# Altium integrated library Maxim Filter Continuous-Time Active.IntLib: 20 symbols
Pins are listed as number, name and electrical type; pins without a type are passive.

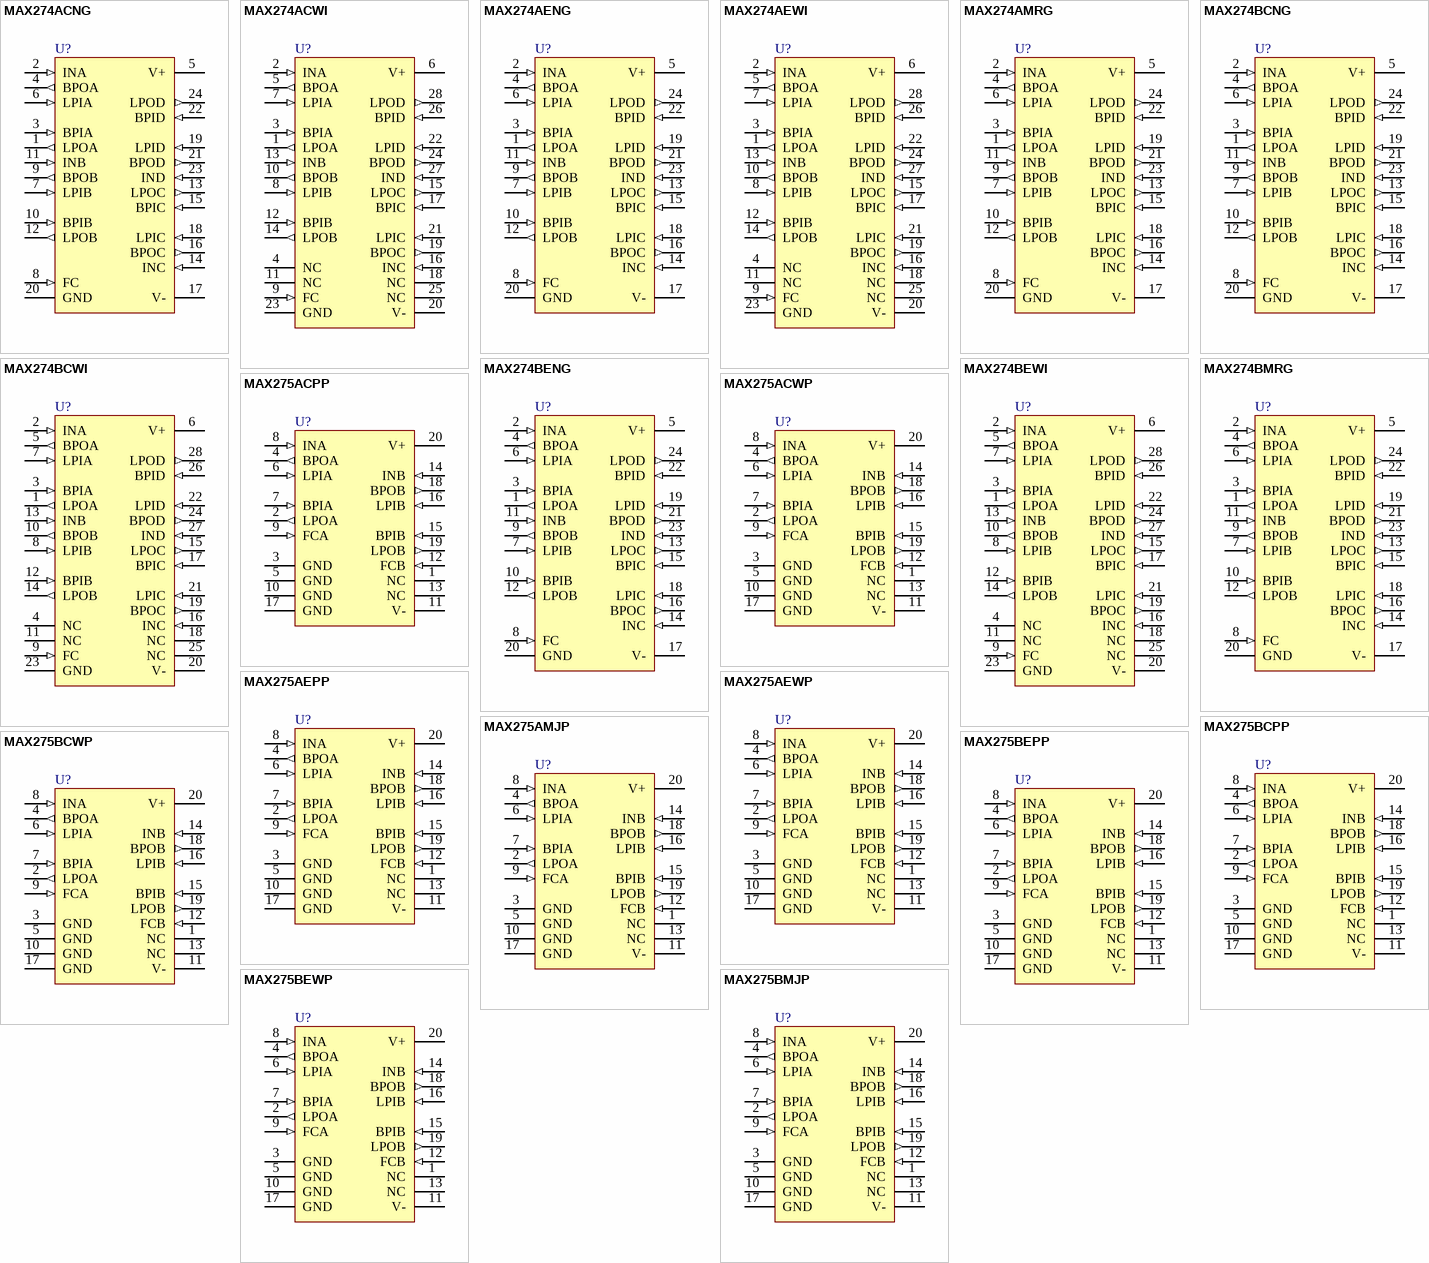
[diagram p0: symbols MAX274ACNG to MAX275BMJP]

## MAX274ACNG
designator U?
4th and 8th-Order Continuous-Time Active Filter; Published: 16-Jan-2001; LatestRevisionDate: 29-May-2009; LatestRevisionNote: Component Body Added.; DatasheetVersion: Oct-1996; PackageVersion: Aug-2000; PackageReference: NG24; Publisher: Altium Limited; PackageDescription: DIP, 24-Pin, Row Spacing 7.62 mm, Pitch 2.54 mm; Code_JEDEC: MS-001-AF; ComponentLink1Description: Manufacturer Link; ComponentLink1URL: http://www.maxim-ic.com/; ComponentLink2Description: Datasheet; ComponentLink2URL: http://pdfserv.maxim-ic.com/en/ds/MAX274-MAX275.pdf
footprint NG24 (DIP, 24-Leads, Row Spacing 7.62mm, Pitch 2.54mm, Body 30.55x7.24mm)
3D model NG24 (DIP, 24-Pin, Row Spacing 7.62 mm, Pitch 2.54 mm)
pins: 1 LPOA (out), 2 INA (in), 3 BPIA (in), 4 BPOA (out), 5 V+ (power), 6 LPIA (in), 7 LPIB (in), 8 FC (in), 9 BPOB (out), 10 BPIB (in), 11 INB (in), 12 LPOB (out), 13 LPOC (out), 14 INC (in), 15 BPIC (in), 16 BPOC (out), 17 V- (power), 18 LPIC (in), 19 LPID (in), 20 GND (power), 21 BPOD (out), 22 BPID (in), 23 IND (in), 24 LPOD (out)

## MAX274ACWI
designator U?
4th and 8th-Order Continuous-Time Active Filter; Published: 16-Jan-2001; LatestRevisionDate: 13-Apr-2006; LatestRevisionNote: IPC-7351 Footprint Added.; DatasheetVersion: Oct-1996; PackageReference: WSO28; Publisher: Altium Limited; PackageDescription: 28-Pin Small Outline Integrated Circuit 1.27 mm Pitch; ComponentLink1Description: Manufacturer Link; ComponentLink1URL: http://www.maxim-ic.com/; ComponentLink2Description: Datasheet; ComponentLink2URL: http://pdfserv.maxim-ic.com/en/ds/MAX274-MAX275.pdf
footprint WSO28_N (SOIC, 28-Leads, Body 17.9x7.5mm, Pitch 1.27mm, IPC Medium Density)
footprint WSO28_L (SOIC, 28-Leads, Body 17.9x7.5mm, Pitch 1.27mm, IPC High Density)
footprint WSO28_M (SOIC, 28-Leads, Body 17.9x7.5mm, Pitch 1.27mm, IPC Low Density)
3D model WSO28 (28-Pin Small Outline Integrated Circuit 1.27 mm Pitch)
pins: 1 LPOA (out), 2 INA (in), 3 BPIA (in), 4 NC, 5 BPOA (out), 6 V+ (power), 7 LPIA (in), 8 LPIB (in), 9 FC (in), 10 BPOB (out), 11 NC, 12 BPIB (in), 13 INB (in), 14 LPOB (out), 15 LPOC (out), 16 INC (in), 17 BPIC (in), 18 NC, 19 BPOC (out), 20 V- (power), 21 LPIC (in), 22 LPID (in), 23 GND (power), 24 BPOD (out), 25 NC, 26 BPID (in), 27 IND (in), 28 LPOD (out)

## MAX274AENG
designator U?
4th and 8th-Order Continuous-Time Active Filter; Published: 16-Jan-2001; LatestRevisionDate: 29-May-2009; LatestRevisionNote: Component Body Added.; DatasheetVersion: Oct-1996; PackageVersion: Aug-2000; PackageReference: NG24; Publisher: Altium Limited; PackageDescription: DIP, 24-Pin, Row Spacing 7.62 mm, Pitch 2.54 mm; Code_JEDEC: MS-001-AF; ComponentLink1Description: Manufacturer Link; ComponentLink1URL: http://www.maxim-ic.com/; ComponentLink2Description: Datasheet; ComponentLink2URL: http://pdfserv.maxim-ic.com/en/ds/MAX274-MAX275.pdf
footprint NG24 (DIP, 24-Leads, Row Spacing 7.62mm, Pitch 2.54mm, Body 30.55x7.24mm)
3D model NG24 (DIP, 24-Pin, Row Spacing 7.62 mm, Pitch 2.54 mm)
pins: 1 LPOA (out), 2 INA (in), 3 BPIA (in), 4 BPOA (out), 5 V+ (power), 6 LPIA (in), 7 LPIB (in), 8 FC (in), 9 BPOB (out), 10 BPIB (in), 11 INB (in), 12 LPOB (out), 13 LPOC (out), 14 INC (in), 15 BPIC (in), 16 BPOC (out), 17 V- (power), 18 LPIC (in), 19 LPID (in), 20 GND (power), 21 BPOD (out), 22 BPID (in), 23 IND (in), 24 LPOD (out)

## MAX274AEWI
designator U?
4th and 8th-Order Continuous-Time Active Filter; Published: 16-Jan-2001; LatestRevisionDate: 13-Apr-2006; LatestRevisionNote: IPC-7351 Footprint Added.; DatasheetVersion: Oct-1996; PackageReference: WSO28; Publisher: Altium Limited; PackageDescription: 28-Pin Small Outline Integrated Circuit 1.27 mm Pitch; ComponentLink1Description: Manufacturer Link; ComponentLink1URL: http://www.maxim-ic.com/; ComponentLink2Description: Datasheet; ComponentLink2URL: http://pdfserv.maxim-ic.com/en/ds/MAX274-MAX275.pdf
footprint WSO28_N (SOIC, 28-Leads, Body 17.9x7.5mm, Pitch 1.27mm, IPC Medium Density)
footprint WSO28_L (SOIC, 28-Leads, Body 17.9x7.5mm, Pitch 1.27mm, IPC High Density)
footprint WSO28_M (SOIC, 28-Leads, Body 17.9x7.5mm, Pitch 1.27mm, IPC Low Density)
3D model WSO28 (28-Pin Small Outline Integrated Circuit 1.27 mm Pitch)
pins: 1 LPOA (out), 2 INA (in), 3 BPIA (in), 4 NC, 5 BPOA (out), 6 V+ (power), 7 LPIA (in), 8 LPIB (in), 9 FC (in), 10 BPOB (out), 11 NC, 12 BPIB (in), 13 INB (in), 14 LPOB (out), 15 LPOC (out), 16 INC (in), 17 BPIC (in), 18 NC, 19 BPOC (out), 20 V- (power), 21 LPIC (in), 22 LPID (in), 23 GND (power), 24 BPOD (out), 25 NC, 26 BPID (in), 27 IND (in), 28 LPOD (out)

## MAX274AMRG
designator U?
4th and 8th-Order Continuous-Time Active Filter; Published: 16-Jan-2001; LatestRevisionDate: 29-May-2009; LatestRevisionNote: Component Body Added.; DatasheetVersion: Oct-1996; PackageVersion: 1996; PackageReference: RG24; Publisher: Altium Limited; PackageDescription: DIP, 24-Pin, Row Spacing 7.62 mm, Pitch 2.54 mm; Code_JEDEC: MS-001-AF; ComponentLink1Description: Manufacturer Link; ComponentLink1URL: http://www.maxim-ic.com/; ComponentLink2Description: Datasheet; ComponentLink2URL: http://pdfserv.maxim-ic.com/en/ds/MAX274-MAX275.pdf
footprint RG24 (DIP, 24-Leads, Row Spacing 7.62mm, Pitch 2.54mm, Body 31.88x6.73mm)
3D model NG24 (DIP, 24-Pin, Row Spacing 7.62 mm, Pitch 2.54 mm)
pins: 1 LPOA (out), 2 INA (in), 3 BPIA (in), 4 BPOA (out), 5 V+ (power), 6 LPIA (in), 7 LPIB (in), 8 FC (in), 9 BPOB (out), 10 BPIB (in), 11 INB (in), 12 LPOB (out), 13 LPOC (out), 14 INC (in), 15 BPIC (in), 16 BPOC (out), 17 V- (power), 18 LPIC (in), 19 LPID (in), 20 GND (power), 21 BPOD (out), 22 BPID (in), 23 IND (in), 24 LPOD (out)

## MAX274BCNG
designator U?
4th and 8th-Order Continuous-Time Active Filter; Published: 16-Jan-2001; LatestRevisionDate: 29-May-2009; LatestRevisionNote: Component Body Added.; DatasheetVersion: Oct-1996; PackageVersion: Aug-2000; PackageReference: NG24; Publisher: Altium Limited; PackageDescription: DIP, 24-Pin, Row Spacing 7.62 mm, Pitch 2.54 mm; Code_JEDEC: MS-001-AF; ComponentLink1Description: Manufacturer Link; ComponentLink1URL: http://www.maxim-ic.com/; ComponentLink2Description: Datasheet; ComponentLink2URL: http://pdfserv.maxim-ic.com/en/ds/MAX274-MAX275.pdf
footprint NG24 (DIP, 24-Leads, Row Spacing 7.62mm, Pitch 2.54mm, Body 30.55x7.24mm)
3D model NG24 (DIP, 24-Pin, Row Spacing 7.62 mm, Pitch 2.54 mm)
pins: 1 LPOA (out), 2 INA (in), 3 BPIA (in), 4 BPOA (out), 5 V+ (power), 6 LPIA (in), 7 LPIB (in), 8 FC (in), 9 BPOB (out), 10 BPIB (in), 11 INB (in), 12 LPOB (out), 13 LPOC (out), 14 INC (in), 15 BPIC (in), 16 BPOC (out), 17 V- (power), 18 LPIC (in), 19 LPID (in), 20 GND (power), 21 BPOD (out), 22 BPID (in), 23 IND (in), 24 LPOD (out)

## MAX274BCWI
designator U?
4th and 8th-Order Continuous-Time Active Filter; Published: 16-Jan-2001; LatestRevisionDate: 13-Apr-2006; LatestRevisionNote: IPC-7351 Footprint Added.; DatasheetVersion: Oct-1996; PackageReference: WSO28; Publisher: Altium Limited; PackageDescription: 28-Pin Small Outline Integrated Circuit 1.27 mm Pitch; ComponentLink1Description: Manufacturer Link; ComponentLink1URL: http://www.maxim-ic.com/; ComponentLink2Description: Datasheet; ComponentLink2URL: http://pdfserv.maxim-ic.com/en/ds/MAX274-MAX275.pdf
footprint WSO28_N (SOIC, 28-Leads, Body 17.9x7.5mm, Pitch 1.27mm, IPC Medium Density)
footprint WSO28_L (SOIC, 28-Leads, Body 17.9x7.5mm, Pitch 1.27mm, IPC High Density)
footprint WSO28_M (SOIC, 28-Leads, Body 17.9x7.5mm, Pitch 1.27mm, IPC Low Density)
3D model WSO28 (28-Pin Small Outline Integrated Circuit 1.27 mm Pitch)
pins: 1 LPOA (out), 2 INA (in), 3 BPIA (in), 4 NC, 5 BPOA (out), 6 V+ (power), 7 LPIA (in), 8 LPIB (in), 9 FC (in), 10 BPOB (out), 11 NC, 12 BPIB (in), 13 INB (in), 14 LPOB (out), 15 LPOC (out), 16 INC (in), 17 BPIC (in), 18 NC, 19 BPOC (out), 20 V- (power), 21 LPIC (in), 22 LPID (in), 23 GND (power), 24 BPOD (out), 25 NC, 26 BPID (in), 27 IND (in), 28 LPOD (out)

## MAX274BENG
designator U?
4th and 8th-Order Continuous-Time Active Filter; Published: 16-Jan-2001; LatestRevisionDate: 29-May-2009; LatestRevisionNote: Component Body Added.; DatasheetVersion: Oct-1996; PackageVersion: Aug-2000; PackageReference: NG24; Publisher: Altium Limited; PackageDescription: DIP, 24-Pin, Row Spacing 7.62 mm, Pitch 2.54 mm; Code_JEDEC: MS-001-AF; ComponentLink1Description: Manufacturer Link; ComponentLink1URL: http://www.maxim-ic.com/; ComponentLink2Description: Datasheet; ComponentLink2URL: http://pdfserv.maxim-ic.com/en/ds/MAX274-MAX275.pdf
footprint NG24 (DIP, 24-Leads, Row Spacing 7.62mm, Pitch 2.54mm, Body 30.55x7.24mm)
3D model NG24 (DIP, 24-Pin, Row Spacing 7.62 mm, Pitch 2.54 mm)
pins: 1 LPOA (out), 2 INA (in), 3 BPIA (in), 4 BPOA (out), 5 V+ (power), 6 LPIA (in), 7 LPIB (in), 8 FC (in), 9 BPOB (out), 10 BPIB (in), 11 INB (in), 12 LPOB (out), 13 LPOC (out), 14 INC (in), 15 BPIC (in), 16 BPOC (out), 17 V- (power), 18 LPIC (in), 19 LPID (in), 20 GND (power), 21 BPOD (out), 22 BPID (in), 23 IND (in), 24 LPOD (out)

## MAX274BEWI
designator U?
4th and 8th-Order Continuous-Time Active Filter; Published: 16-Jan-2001; LatestRevisionDate: 13-Apr-2006; LatestRevisionNote: IPC-7351 Footprint Added.; DatasheetVersion: Oct-1996; PackageReference: WSO28; Publisher: Altium Limited; PackageDescription: 28-Pin Small Outline Integrated Circuit 1.27 mm Pitch; ComponentLink1Description: Manufacturer Link; ComponentLink1URL: http://www.maxim-ic.com/; ComponentLink2Description: Datasheet; ComponentLink2URL: http://pdfserv.maxim-ic.com/en/ds/MAX274-MAX275.pdf
footprint WSO28_N (SOIC, 28-Leads, Body 17.9x7.5mm, Pitch 1.27mm, IPC Medium Density)
footprint WSO28_L (SOIC, 28-Leads, Body 17.9x7.5mm, Pitch 1.27mm, IPC High Density)
footprint WSO28_M (SOIC, 28-Leads, Body 17.9x7.5mm, Pitch 1.27mm, IPC Low Density)
3D model WSO28 (28-Pin Small Outline Integrated Circuit 1.27 mm Pitch)
pins: 1 LPOA (out), 2 INA (in), 3 BPIA (in), 4 NC, 5 BPOA (out), 6 V+ (power), 7 LPIA (in), 8 LPIB (in), 9 FC (in), 10 BPOB (out), 11 NC, 12 BPIB (in), 13 INB (in), 14 LPOB (out), 15 LPOC (out), 16 INC (in), 17 BPIC (in), 18 NC, 19 BPOC (out), 20 V- (power), 21 LPIC (in), 22 LPID (in), 23 GND (power), 24 BPOD (out), 25 NC, 26 BPID (in), 27 IND (in), 28 LPOD (out)

## MAX274BMRG
designator U?
4th and 8th-Order Continuous-Time Active Filter; Published: 16-Jan-2001; LatestRevisionDate: 29-May-2009; LatestRevisionNote: Component Body Added.; DatasheetVersion: Oct-1996; PackageVersion: 1996; PackageReference: RG24; Publisher: Altium Limited; PackageDescription: DIP, 24-Pin, Row Spacing 7.62 mm, Pitch 2.54 mm; Code_JEDEC: MS-001-AF; ComponentLink1Description: Manufacturer Link; ComponentLink1URL: http://www.maxim-ic.com/; ComponentLink2Description: Datasheet; ComponentLink2URL: http://pdfserv.maxim-ic.com/en/ds/MAX274-MAX275.pdf
footprint RG24 (DIP, 24-Leads, Row Spacing 7.62mm, Pitch 2.54mm, Body 31.88x6.73mm)
3D model NG24 (DIP, 24-Pin, Row Spacing 7.62 mm, Pitch 2.54 mm)
pins: 1 LPOA (out), 2 INA (in), 3 BPIA (in), 4 BPOA (out), 5 V+ (power), 6 LPIA (in), 7 LPIB (in), 8 FC (in), 9 BPOB (out), 10 BPIB (in), 11 INB (in), 12 LPOB (out), 13 LPOC (out), 14 INC (in), 15 BPIC (in), 16 BPOC (out), 17 V- (power), 18 LPIC (in), 19 LPID (in), 20 GND (power), 21 BPOD (out), 22 BPID (in), 23 IND (in), 24 LPOD (out)

## MAX275ACPP
designator U?
4th and 8th-Order Continuous-Time Active Filter; Published: 16-Jan-2001; LatestRevisionDate: 29-May-2009; LatestRevisionNote: Component Body Added.; DatasheetVersion: Oct-1996; PackageVersion: RevB, 21-0043; PackageReference: PP20; Publisher: Altium Limited; PackageDescription: DIP, 20-Pin, Row Spacing 7.62 mm, Pitch 2.54 mm; Code_JEDEC: MS-001-AE; ComponentLink1Description: Manufacturer Link; ComponentLink1URL: http://www.maxim-ic.com/; ComponentLink2Description: Datasheet; ComponentLink2URL: http://pdfserv.maxim-ic.com/en/ds/MAX274-MAX275.pdf
footprint PP20 (DIP, 20-Leads, Row Spacing 7.62mm, Pitch 2.54mm, Body 26.16x7.24mm)
3D model PP20 (DIP, 20-Pin, Row Spacing 7.62 mm, Pitch 2.54 mm)
pins: 1 NC, 2 LPOA (out), 3 GND (power), 4 BPOA (out), 5 GND (power), 6 LPIA (in), 7 BPIA (in), 8 INA (in), 9 FCA (in), 10 GND (power), 11 V- (power), 12 FCB (in), 13 NC, 14 INB (in), 15 BPIB (in), 16 LPIB (in), 17 GND (power), 18 BPOB (out), 19 LPOB (out), 20 V+ (power)

## MAX275ACWP
designator U?
4th and 8th-Order Continuous-Time Active Filter; Published: 16-Jan-2001; LatestRevisionDate: 13-Apr-2006; LatestRevisionNote: IPC-7351 Footprint Added.; DatasheetVersion: Oct-1996; PackageReference: WSO20; Publisher: Altium Limited; PackageDescription: 20-Pin Small Outline Integrated Circuit 1.27 mm Pitch; Code_JEDEC: MS-013-AC; Code_IPC: SOIC127P1030-20; ComponentLink1Description: Manufacturer Link; ComponentLink1URL: http://www.maxim-ic.com/; ComponentLink2Description: Datasheet; ComponentLink2URL: http://pdfserv.maxim-ic.com/en/ds/MAX274-MAX275.pdf
footprint WSO20_N (SOIC, 20-Leads, Body 12.8x7.5mm, Pitch 1.27mm, IPC Medium Density)
footprint WSO20_L (SOIC, 20-Leads, Body 12.8x7.5mm, Pitch 1.27mm, IPC High Density)
footprint WSO20_M (SOIC, 20-Leads, Body 12.8x7.5mm, Pitch 1.27mm, IPC Low Density)
3D model WSO20 (20-Pin Small Outline Integrated Circuit 1.27 mm Pitch)
pins: 1 NC, 2 LPOA (out), 3 GND (power), 4 BPOA (out), 5 GND (power), 6 LPIA (in), 7 BPIA (in), 8 INA (in), 9 FCA (in), 10 GND (power), 11 V- (power), 12 FCB (in), 13 NC, 14 INB (in), 15 BPIB (in), 16 LPIB (in), 17 GND (power), 18 BPOB (out), 19 LPOB (out), 20 V+ (power)

## MAX275AEPP
designator U?
4th and 8th-Order Continuous-Time Active Filter; Published: 16-Jan-2001; LatestRevisionDate: 29-May-2009; LatestRevisionNote: Component Body Added.; DatasheetVersion: Oct-1996; PackageVersion: RevB, 21-0043; PackageReference: PP20; Publisher: Altium Limited; PackageDescription: DIP, 20-Pin, Row Spacing 7.62 mm, Pitch 2.54 mm; Code_JEDEC: MS-001-AE; ComponentLink1Description: Manufacturer Link; ComponentLink1URL: http://www.maxim-ic.com/; ComponentLink2Description: Datasheet; ComponentLink2URL: http://pdfserv.maxim-ic.com/en/ds/MAX274-MAX275.pdf
footprint PP20 (DIP, 20-Leads, Row Spacing 7.62mm, Pitch 2.54mm, Body 26.16x7.24mm)
3D model PP20 (DIP, 20-Pin, Row Spacing 7.62 mm, Pitch 2.54 mm)
pins: 1 NC, 2 LPOA (out), 3 GND (power), 4 BPOA (out), 5 GND (power), 6 LPIA (in), 7 BPIA (in), 8 INA (in), 9 FCA (in), 10 GND (power), 11 V- (power), 12 FCB (in), 13 NC, 14 INB (in), 15 BPIB (in), 16 LPIB (in), 17 GND (power), 18 BPOB (out), 19 LPOB (out), 20 V+ (power)

## MAX275AEWP
designator U?
4th and 8th-Order Continuous-Time Active Filter; Published: 16-Jan-2001; LatestRevisionDate: 13-Apr-2006; LatestRevisionNote: IPC-7351 Footprint Added.; DatasheetVersion: Oct-1996; PackageReference: WSO20; Publisher: Altium Limited; PackageDescription: 20-Pin Small Outline Integrated Circuit 1.27 mm Pitch; Code_JEDEC: MS-013-AC; Code_IPC: SOIC127P1030-20; ComponentLink1Description: Manufacturer Link; ComponentLink1URL: http://www.maxim-ic.com/; ComponentLink2Description: Datasheet; ComponentLink2URL: http://pdfserv.maxim-ic.com/en/ds/MAX274-MAX275.pdf
footprint WSO20_N (SOIC, 20-Leads, Body 12.8x7.5mm, Pitch 1.27mm, IPC Medium Density)
footprint WSO20_L (SOIC, 20-Leads, Body 12.8x7.5mm, Pitch 1.27mm, IPC High Density)
footprint WSO20_M (SOIC, 20-Leads, Body 12.8x7.5mm, Pitch 1.27mm, IPC Low Density)
3D model WSO20 (20-Pin Small Outline Integrated Circuit 1.27 mm Pitch)
pins: 1 NC, 2 LPOA (out), 3 GND (power), 4 BPOA (out), 5 GND (power), 6 LPIA (in), 7 BPIA (in), 8 INA (in), 9 FCA (in), 10 GND (power), 11 V- (power), 12 FCB (in), 13 NC, 14 INB (in), 15 BPIB (in), 16 LPIB (in), 17 GND (power), 18 BPOB (out), 19 LPOB (out), 20 V+ (power)

## MAX275AMJP
designator U?
4th and 8th-Order Continuous-Time Active Filter; Published: 16-Jan-2001; LatestRevisionDate: 29-May-2009; LatestRevisionNote: Component Body Added.; DatasheetVersion: Oct-1996; PackageVersion: 1996; PackageReference: JP20; Publisher: Altium Limited; PackageDescription: DIP, 20-Pin, Row Spacing 7.62 mm, Pitch 2.54 mm; Code_JEDEC: MS-001-AD; ComponentLink1Description: Manufacturer Link; ComponentLink1URL: http://www.maxim-ic.com/; ComponentLink2Description: Datasheet; ComponentLink2URL: http://pdfserv.maxim-ic.com/en/ds/MAX274-MAX275.pdf
footprint JP20 (DIP, 20-Leads, Row Spacing 7.62mm, Pitch 2.54mm, Body 25.91x6.73mm)
3D model PP20 (DIP, 20-Pin, Row Spacing 7.62 mm, Pitch 2.54 mm)
pins: 1 NC, 2 LPOA (out), 3 GND (power), 4 BPOA (out), 5 GND (power), 6 LPIA (in), 7 BPIA (in), 8 INA (in), 9 FCA (in), 10 GND (power), 11 V- (power), 12 FCB (in), 13 NC, 14 INB (in), 15 BPIB (in), 16 LPIB (in), 17 GND (power), 18 BPOB (out), 19 LPOB (out), 20 V+ (power)

## MAX275BCPP
designator U?
4th and 8th-Order Continuous-Time Active Filter; Published: 16-Jan-2001; LatestRevisionDate: 29-May-2009; LatestRevisionNote: Component Body Added.; DatasheetVersion: Oct-1996; PackageVersion: RevB, 21-0043; PackageReference: PP20; Publisher: Altium Limited; PackageDescription: DIP, 20-Pin, Row Spacing 7.62 mm, Pitch 2.54 mm; Code_JEDEC: MS-001-AE; ComponentLink1Description: Manufacturer Link; ComponentLink1URL: http://www.maxim-ic.com/; ComponentLink2Description: Datasheet; ComponentLink2URL: http://pdfserv.maxim-ic.com/en/ds/MAX274-MAX275.pdf
footprint PP20 (DIP, 20-Leads, Row Spacing 7.62mm, Pitch 2.54mm, Body 26.16x7.24mm)
3D model PP20 (DIP, 20-Pin, Row Spacing 7.62 mm, Pitch 2.54 mm)
pins: 1 NC, 2 LPOA (out), 3 GND (power), 4 BPOA (out), 5 GND (power), 6 LPIA (in), 7 BPIA (in), 8 INA (in), 9 FCA (in), 10 GND (power), 11 V- (power), 12 FCB (in), 13 NC, 14 INB (in), 15 BPIB (in), 16 LPIB (in), 17 GND (power), 18 BPOB (out), 19 LPOB (out), 20 V+ (power)

## MAX275BCWP
designator U?
4th and 8th-Order Continuous-Time Active Filter; Published: 16-Jan-2001; LatestRevisionDate: 13-Apr-2006; LatestRevisionNote: IPC-7351 Footprint Added.; DatasheetVersion: Oct-1996; PackageReference: WSO20; Publisher: Altium Limited; PackageDescription: 20-Pin Small Outline Integrated Circuit 1.27 mm Pitch; Code_JEDEC: MS-013-AC; Code_IPC: SOIC127P1030-20; ComponentLink1Description: Manufacturer Link; ComponentLink1URL: http://www.maxim-ic.com/; ComponentLink2Description: Datasheet; ComponentLink2URL: http://pdfserv.maxim-ic.com/en/ds/MAX274-MAX275.pdf
footprint WSO20_N (SOIC, 20-Leads, Body 12.8x7.5mm, Pitch 1.27mm, IPC Medium Density)
footprint WSO20_L (SOIC, 20-Leads, Body 12.8x7.5mm, Pitch 1.27mm, IPC High Density)
footprint WSO20_M (SOIC, 20-Leads, Body 12.8x7.5mm, Pitch 1.27mm, IPC Low Density)
3D model WSO20 (20-Pin Small Outline Integrated Circuit 1.27 mm Pitch)
pins: 1 NC, 2 LPOA (out), 3 GND (power), 4 BPOA (out), 5 GND (power), 6 LPIA (in), 7 BPIA (in), 8 INA (in), 9 FCA (in), 10 GND (power), 11 V- (power), 12 FCB (in), 13 NC, 14 INB (in), 15 BPIB (in), 16 LPIB (in), 17 GND (power), 18 BPOB (out), 19 LPOB (out), 20 V+ (power)

## MAX275BEPP
designator U?
4th and 8th-Order Continuous-Time Active Filter; Published: 16-Jan-2001; LatestRevisionDate: 29-May-2009; LatestRevisionNote: Component Body Added.; DatasheetVersion: Oct-1996; PackageVersion: RevB, 21-0043; PackageReference: PP20; Publisher: Altium Limited; PackageDescription: DIP, 20-Pin, Row Spacing 7.62 mm, Pitch 2.54 mm; Code_JEDEC: MS-001-AE; ComponentLink1Description: Manufacturer Link; ComponentLink1URL: http://www.maxim-ic.com/; ComponentLink2Description: Datasheet; ComponentLink2URL: http://pdfserv.maxim-ic.com/en/ds/MAX274-MAX275.pdf
footprint PP20 (DIP, 20-Leads, Row Spacing 7.62mm, Pitch 2.54mm, Body 26.16x7.24mm)
3D model PP20 (DIP, 20-Pin, Row Spacing 7.62 mm, Pitch 2.54 mm)
pins: 1 NC, 2 LPOA (out), 3 GND (power), 4 BPOA (out), 5 GND (power), 6 LPIA (in), 7 BPIA (in), 8 INA (in), 9 FCA (in), 10 GND (power), 11 V- (power), 12 FCB (in), 13 NC, 14 INB (in), 15 BPIB (in), 16 LPIB (in), 17 GND (power), 18 BPOB (out), 19 LPOB (out), 20 V+ (power)

## MAX275BEWP
designator U?
4th and 8th-Order Continuous-Time Active Filter; Published: 16-Jan-2001; LatestRevisionDate: 13-Apr-2006; LatestRevisionNote: IPC-7351 Footprint Added.; DatasheetVersion: Oct-1996; PackageReference: WSO20; Publisher: Altium Limited; PackageDescription: 20-Pin Small Outline Integrated Circuit 1.27 mm Pitch; Code_JEDEC: MS-013-AC; Code_IPC: SOIC127P1030-20; ComponentLink1Description: Manufacturer Link; ComponentLink1URL: http://www.maxim-ic.com/; ComponentLink2Description: Datasheet; ComponentLink2URL: http://pdfserv.maxim-ic.com/en/ds/MAX274-MAX275.pdf
footprint WSO20_N (SOIC, 20-Leads, Body 12.8x7.5mm, Pitch 1.27mm, IPC Medium Density)
footprint WSO20_L (SOIC, 20-Leads, Body 12.8x7.5mm, Pitch 1.27mm, IPC High Density)
footprint WSO20_M (SOIC, 20-Leads, Body 12.8x7.5mm, Pitch 1.27mm, IPC Low Density)
3D model WSO20 (20-Pin Small Outline Integrated Circuit 1.27 mm Pitch)
pins: 1 NC, 2 LPOA (out), 3 GND (power), 4 BPOA (out), 5 GND (power), 6 LPIA (in), 7 BPIA (in), 8 INA (in), 9 FCA (in), 10 GND (power), 11 V- (power), 12 FCB (in), 13 NC, 14 INB (in), 15 BPIB (in), 16 LPIB (in), 17 GND (power), 18 BPOB (out), 19 LPOB (out), 20 V+ (power)

## MAX275BMJP
designator U?
4th and 8th-Order Continuous-Time Active Filter; Published: 16-Jan-2001; LatestRevisionDate: 29-May-2009; LatestRevisionNote: Component Body Added.; DatasheetVersion: Oct-1996; PackageVersion: 1996; PackageReference: JP20; Publisher: Altium Limited; PackageDescription: DIP, 20-Pin, Row Spacing 7.62 mm, Pitch 2.54 mm; Code_JEDEC: MS-001-AD; ComponentLink1Description: Manufacturer Link; ComponentLink1URL: http://www.maxim-ic.com/; ComponentLink2Description: Datasheet; ComponentLink2URL: http://pdfserv.maxim-ic.com/en/ds/MAX274-MAX275.pdf
footprint JP20 (DIP, 20-Leads, Row Spacing 7.62mm, Pitch 2.54mm, Body 25.91x6.73mm)
3D model PP20 (DIP, 20-Pin, Row Spacing 7.62 mm, Pitch 2.54 mm)
pins: 1 NC, 2 LPOA (out), 3 GND (power), 4 BPOA (out), 5 GND (power), 6 LPIA (in), 7 BPIA (in), 8 INA (in), 9 FCA (in), 10 GND (power), 11 V- (power), 12 FCB (in), 13 NC, 14 INB (in), 15 BPIB (in), 16 LPIB (in), 17 GND (power), 18 BPOB (out), 19 LPOB (out), 20 V+ (power)